# Altium footprint library DIP-CN  0607.PcbLib: 329 footprints (part 20 of 21)
Each footprint in its own frame and in the unit in brackets; x right, y up, seen from the top. Pads: shape width x height; smd on the part's side, far side on the other; paste and mask are expansions set on the pad; w line width, h text height; cw(c..) or ccw(c..) is an arc to the next point about the centre after c.
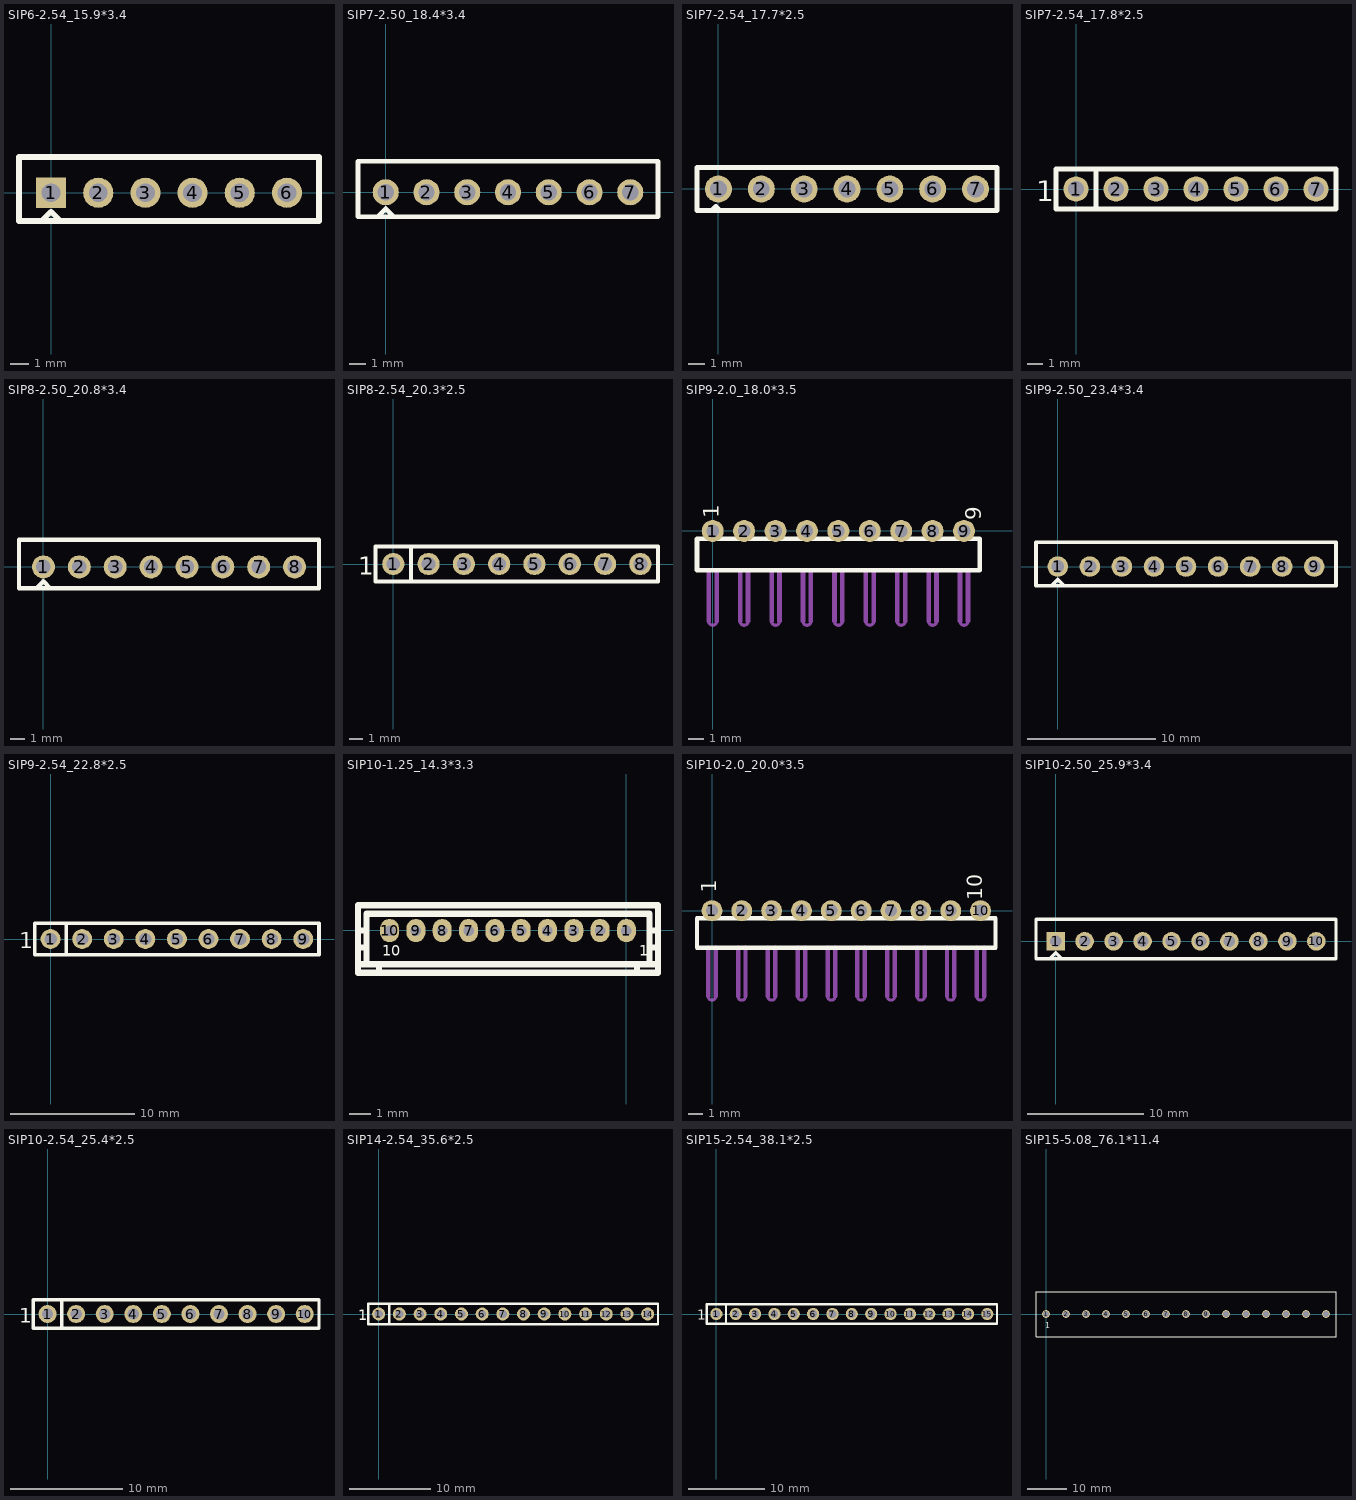
[diagram p19: the footprints below, top view; thin cyan lines are the x and y axes]

## SIP6-2.54_15.9*3.4 [mm]
pads (6):
  rect 1.6x1.6 hole 1: 1(0,0)
  round 1.6 hole 1: 2(2.5,0) 3(5,0) 4(7.5,0) 5(10,0) 6(12.5,0)
TopOverlay:
  lines w0.3: 0.5,-1.5 0,-1 ; -0.5,-1.5 0,-1 ; -0.5,-1.5 -0.5,-1.5 ; 0,-1 0,-1 ; -1.7,-1.5 14.2,-1.5 14.2,1.9 -1.7,1.9 -1.7,-1.5

## SIP7-2.50_18.4*3.4 [mm]
pads (7):
  round 1.6 hole 1: 1(0,0) 2(2.5,0) 3(5,0) 4(7.5,0) 5(10,0) 6(12.5,0) 7(15,0)
TopOverlay:
  lines w0.3: 0.5,-1.5 0,-1 ; -0.5,-1.5 0,-1 ; -0.5,-1.5 -0.5,-1.5 ; 0,-1 0,-1 ; -1.7,-1.5 16.7,-1.5 16.7,1.9 -1.7,1.9 -1.7,-1.5

## SIP7-2.54_17.7*2.5 [mm]
pads (7):
  round 1.6 hole 1: 1(0,0) 2(2.54,0) 3(5.08,0) 4(7.62,0) 5(10.16,0) 6(12.7,0) 7(15.24,0)
TopOverlay:
  lines w0.3: -0.4,-1.27 -0.155,-1.025 0.075,-1.255 ; -1.27,-1.27 16.51,-1.27 16.51,1.27 -1.27,1.27 -1.27,-1.27

## SIP7-2.54_17.8*2.5 [mm]
pads (7):
  round 1.6 hole 1: 1(0,0) 2(2.54,0) 3(5.08,0) 4(7.62,0) 5(10.16,0) 6(12.7,0) 7(15.24,0)
TopOverlay:
  lines w0.3: 1.27,-1.27 1.27,1.27 ; -1.27,-1.27 -1.27,1.27 16.51,1.27 16.51,-1.27 -1.27,-1.27
  text "1" at -2.54,-0.762 h1.3
BottomOverlay:
  lines w0.3: 1.27,-1.016 1.27,1.016 ; 3.81,-1.016 3.81,1.016 ; 6.35,-1.016 6.35,1.016 ; 8.89,-1.016 8.89,1.016 ; 11.43,-1.016 11.43,1.016 ; 13.97,-1.016 13.97,1.016

## SIP8-2.50_20.8*3.4 [mm]
pads (8):
  round 1.6 hole 1: 1(0,0) 2(2.5,0) 3(5,0) 4(7.5,0) 5(10,0) 6(12.5,0) 7(15,0) 8(17.5,0)
TopOverlay:
  lines w0.3: 0.5,-1.5 0,-1 ; -0.5,-1.5 -0.5,-1.5 ; -0.5,-1.5 0,-1 ; 0,-1 0,-1 ; -1.7,-1.5 19.2,-1.5 19.2,1.9 -1.7,1.9 -1.7,-1.5

## SIP8-2.54_20.3*2.5 [mm]
pads (8):
  round 1.6 hole 1: 1(0,0) 2(2.54,0) 3(5.08,0) 4(7.62,0) 5(10.16,0) 6(12.7,0) 7(15.24,0) 8(17.78,0)
TopOverlay:
  lines w0.3: 1.27,-1.27 1.27,1.27 ; -1.27,-1.27 -1.27,1.27 19.05,1.27 19.05,-1.27 -1.27,-1.27
  text "1" at -2.54,-0.762 h1.3
BottomOverlay:
  lines w0.3: 1.27,-1.016 1.27,1.016 ; 3.81,-1.016 3.81,1.016 ; 6.35,-1.016 6.35,1.016 ; 8.89,-1.016 8.89,1.016 ; 11.43,-1.016 11.43,1.016 ; 13.97,-1.016 13.97,1.016 ; 16.51,-1.016 16.51,1.016

## SIP9-2.0_18.0*3.5 [mm]
pads (9):
  round 1.4 hole 0.8: 1(-0.01,-0.006) 2(1.99,-0.006) 3(3.99,-0.006) 4(5.99,-0.006) 5(7.99,-0.006) 6(9.99,-0.006) 7(11.99,-0.006) 8(13.99,-0.006) 9(15.99,-0.006)
TopOverlay:
  lines w0.3: -1.01,-2.506 -1.01,-0.506 16.99,-0.506 16.99,-2.506 -1.01,-2.506
  text "9" at 17.09,0.694 h1
  text "1" at 0.39,0.794 h1
BottomOverlay:
  lines w0.3: 0.99,-0.756 0.99,0.744 ; 2.99,-0.756 2.99,0.744 ; 4.99,-0.756 4.99,0.744 ; 6.99,-0.756 6.99,0.744 ; 8.99,-0.756 8.99,0.744 ; 10.99,-0.756 10.99,0.744 ; 12.99,-0.756 12.99,0.744 ; 14.99,-0.756 14.99,0.744
Mechanical7:
  lines w0.2: -0.26,-5.756 ccw(c-0.01,-5.756) 0.24,-5.756 ; 1.74,-5.756 ccw(c1.99,-5.756) 2.24,-5.756 ; 3.74,-5.756 ccw(c3.99,-5.756) 4.24,-5.756 ; 5.74,-5.756 ccw(c5.99,-5.756) 6.24,-5.756 ; 7.74,-5.756 ccw(c7.99,-5.756) 8.24,-5.756 ; 9.74,-5.756 ccw(c9.99,-5.756) 10.24,-5.756 ; 11.74,-5.756 ccw(c11.99,-5.756) 12.24,-5.756 ; 13.74,-5.756 ccw(c13.99,-5.756) 14.24,-5.756 ; 15.74,-5.756 ccw(c15.99,-5.756) 16.24,-5.756
  lines w0.3: -0.26,-5.756 -0.26,-2.506 ; 0.24,-5.756 0.24,-2.506 ; 1.74,-5.756 1.74,-2.506 ; 2.24,-5.756 2.24,-2.506 ; 3.74,-5.756 3.74,-2.506 ; 4.24,-5.756 4.24,-2.506 ; 5.74,-5.756 5.74,-2.506 ; 6.24,-5.756 6.24,-2.506 ; 7.74,-5.756 7.74,-2.506 ; 8.24,-5.756 8.24,-2.506 ; 9.74,-5.756 9.74,-2.506 ; 10.24,-5.756 10.24,-2.506 ; 11.74,-5.756 11.74,-2.506 ; 12.24,-5.756 12.24,-2.506 ; 13.74,-5.756 13.74,-2.506 ; 14.24,-5.756 14.24,-2.506 ; 15.74,-5.756 15.74,-2.506 ; 16.24,-5.756 16.24,-2.506
  text "T<=1.2" at -0.51,-2.256 h0.5

## SIP9-2.50_23.4*3.4 [mm]
pads (9):
  round 1.6 hole 1: 1(0,0) 2(2.5,0) 3(5,0) 4(7.5,0) 5(10,0) 6(12.5,0) 7(15,0) 8(17.5,0) 9(20,0)
TopOverlay:
  lines w0.3: 0.5,-1.5 0,-1 ; -0.5,-1.5 0,-1 ; -0.5,-1.5 -0.5,-1.5 ; 0,-1 0,-1 ; -1.7,-1.5 21.7,-1.5 21.7,1.9 -1.7,1.9 -1.7,-1.5

## SIP9-2.54_22.8*2.5 [mm]
pads (9):
  round 1.6 hole 1: 1(0,0) 2(2.54,0) 3(5.08,0) 4(7.62,0) 5(10.16,0) 6(12.7,0) 7(15.24,0) 8(17.78,0) 9(20.32,0)
TopOverlay:
  lines w0.3: 1.27,-1.27 1.27,1.27 ; -1.27,-1.27 -1.27,1.27 21.59,1.27 21.59,-1.27 -1.27,-1.27
  text "1" at -2.54,-0.762 h1.3
BottomOverlay:
  lines w0.3: 1.27,-1.016 1.27,1.016 ; 3.81,-1.016 3.81,1.016 ; 6.35,-1.016 6.35,1.016 ; 8.89,-1.016 8.89,1.016 ; 11.43,-1.016 11.43,1.016 ; 13.97,-1.016 13.97,1.016 ; 16.51,-1.016 16.51,1.016 ; 19.05,-1.016 19.05,1.016

## SIP10-1.25_14.3*3.3 [mm]
pads (10):
  oval 0.9x1.1 hole 0.5: 1(0.005,-0.021) 2(-1.245,-0.021) 3(-2.495,-0.021) 4(-3.745,-0.021) 5(-4.995,-0.021) 6(-6.245,-0.021) 7(-7.495,-0.021) 8(-8.745,-0.021) 9(-9.995,-0.021) 10(-11.245,-0.021)
TopOverlay:
  lines w0.3: -12.745,-1.621 -12.345,-1.621 ; -12.745,-0.821 -12.345,-0.821 ; -12.745,-0.021 -12.345,-0.021 ; -11.745,-2.021 -11.745,-1.621 ; 0.505,-2.021 0.505,-1.621 ; 1.105,-0.821 1.505,-0.821 ; 1.105,-0.021 1.505,-0.021 ; 1.505,-1.621 1.105,-1.621 ; -12.345,-1.621 -12.345,0.779 1.105,0.779 1.105,-1.621 ; -12.345,-1.621 1.105,-1.621 ; -12.745,-2.021 1.505,-2.021 1.505,1.179 -12.745,1.179 -12.745,-2.021
  text "10" at -11.595,-1.221 h0.5
  text "1" at 0.605,-1.221 h0.5
BottomOverlay:
  lines w0.3: -10.62,-0.521 -10.62,0.479 ; -9.37,-0.521 -9.37,0.479 ; -8.12,-0.521 -8.12,0.479 ; -6.87,-0.521 -6.87,0.479 ; -5.62,-0.521 -5.62,0.479 ; -4.37,-0.521 -4.37,0.479 ; -3.12,-0.521 -3.12,0.479 ; -1.87,-0.521 -1.87,0.479 ; -0.62,-0.521 -0.62,0.479

## SIP10-2.0_20.0*3.5 [mm]
pads (10):
  round 1.4 hole 0.8: 1(-0.017,-0.006) 2(1.983,-0.006) 3(3.983,-0.006) 4(5.983,-0.006) 5(7.983,-0.006) 6(9.983,-0.006) 7(11.983,-0.006) 8(13.983,-0.006) 9(15.983,-0.006) 10(17.983,-0.006)
TopOverlay:
  lines w0.3: -1.017,-2.506 18.983,-2.506 18.983,-0.506 -1.017,-0.506 -1.017,-2.506
  text "1" at 0.283,1.194 h1
  text "10" at 18.083,0.694 h1
BottomOverlay:
  lines w0.3: 0.983,-0.756 0.983,0.744 ; 2.983,-0.756 2.983,0.744 ; 4.983,-0.756 4.983,0.744 ; 6.983,-0.756 6.983,0.744 ; 8.983,-0.756 8.983,0.744 ; 10.983,-0.756 10.983,0.744 ; 12.983,-0.756 12.983,0.744 ; 14.983,-0.756 14.983,0.744 ; 16.983,-0.756 16.983,0.744
Mechanical7:
  lines w0.2: -0.267,-5.756 ccw(c-0.017,-5.756) 0.233,-5.756 ; 1.733,-5.756 ccw(c1.983,-5.756) 2.233,-5.756 ; 3.733,-5.756 ccw(c3.983,-5.756) 4.233,-5.756 ; 5.733,-5.756 ccw(c5.983,-5.756) 6.233,-5.756 ; 7.733,-5.756 ccw(c7.983,-5.756) 8.233,-5.756 ; 9.733,-5.756 ccw(c9.983,-5.756) 10.233,-5.756 ; 11.733,-5.756 ccw(c11.983,-5.756) 12.233,-5.756 ; 13.733,-5.756 ccw(c13.983,-5.756) 14.233,-5.756 ; 15.733,-5.756 ccw(c15.983,-5.756) 16.233,-5.756 ; 17.733,-5.756 ccw(c17.983,-5.756) 18.233,-5.756
  lines w0.3: -0.267,-5.756 -0.267,-2.506 ; 0.233,-5.756 0.233,-2.506 ; 1.733,-5.756 1.733,-2.506 ; 2.233,-5.756 2.233,-2.506 ; 3.733,-5.756 3.733,-2.506 ; 4.233,-5.756 4.233,-2.506 ; 5.733,-5.756 5.733,-2.506 ; 6.233,-5.756 6.233,-2.506 ; 7.733,-5.756 7.733,-2.506 ; 8.233,-5.756 8.233,-2.506 ; 9.733,-5.756 9.733,-2.506 ; 10.233,-5.756 10.233,-2.506 ; 11.733,-5.756 11.733,-2.506 ; 12.233,-5.756 12.233,-2.506 ; 13.733,-5.756 13.733,-2.506 ; 14.233,-5.756 14.233,-2.506 ; 15.733,-5.756 15.733,-2.506 ; 16.233,-5.756 16.233,-2.506 ; 17.733,-5.756 17.733,-2.506 ; 18.233,-5.756 18.233,-2.506
  text "T<=1.2" at 2.444,-1.287 h0.5

## SIP10-2.50_25.9*3.4 [mm]
pads (10):
  rect 1.6x1.6 hole 1: 1(0,0)
  round 1.6 hole 1: 2(2.5,0) 3(5,0) 4(7.5,0) 5(10,0) 6(12.5,0) 7(15,0) 8(17.5,0) 9(20,0) 10(22.5,0)
TopOverlay:
  lines w0.3: 0.5,-1.5 0,-1 ; -0.5,-1.5 0,-1 ; -0.5,-1.5 -0.5,-1.5 ; 0,-1 0,-1 ; -1.7,-1.5 24.2,-1.5 24.2,1.9 -1.7,1.9 -1.7,-1.5

## SIP10-2.54_25.4*2.5 [mm]
pads (10):
  round 1.6 hole 1: 1(0,0) 2(2.54,0) 3(5.08,0) 4(7.62,0) 5(10.16,0) 6(12.7,0) 7(15.24,0) 8(17.78,0) 9(20.32,0) 10(22.86,0)
TopOverlay:
  lines w0.3: 1.27,-1.27 1.27,1.27 ; -1.27,-1.27 24.13,-1.27 24.13,1.27 -1.27,1.27 -1.27,-1.27
  text "1" at -2.54,-0.762 h1.3
BottomOverlay:
  lines w0.3: 1.27,-1.016 1.27,1.016 ; 3.81,-1.016 3.81,1.016 ; 6.35,-1.016 6.35,1.016 ; 8.89,-1.016 8.89,1.016 ; 11.43,-1.016 11.43,1.016 ; 13.97,-1.016 13.97,1.016 ; 16.51,-1.016 16.51,1.016 ; 19.05,-1.016 19.05,1.016 ; 21.59,-1.016 21.59,1.016

## SIP14-2.54_35.6*2.5 [mm]
pads (14):
  round 1.6 hole 1: 1(0,0) 2(2.54,0) 3(5.08,0) 4(7.62,0) 5(10.16,0) 6(12.7,0) 7(15.24,0) 8(17.78,0) 9(20.32,0) 10(22.86,0) 11(25.4,0) 12(27.94,0) 13(30.48,0) 14(33.02,0)
TopOverlay:
  lines w0.3: 1.27,-1.27 1.27,1.27 ; -1.27,-1.27 -1.27,1.27 34.29,1.27 34.29,-1.27 -1.27,-1.27
  text "1" at -2.54,-0.762 h1.3
BottomOverlay:
  lines w0.3: 1.27,-1.016 1.27,1.016 ; 3.81,-1.016 3.81,1.016 ; 6.35,-1.016 6.35,1.016 ; 8.89,-1.016 8.89,1.016 ; 11.43,-1.016 11.43,1.016 ; 13.97,-1.016 13.97,1.016 ; 16.51,-1.016 16.51,1.016 ; 19.05,-1.016 19.05,1.016 ; 21.59,-1.016 21.59,1.016 ; 24.13,-1.016 24.13,1.016 ; 26.67,-1.016 26.67,1.016 ; 29.21,-1.016 29.21,1.016 ; 31.75,-1.016 31.75,1.016

## SIP15-2.54_38.1*2.5 [mm]
pads (15):
  round 1.6 hole 1: 1(0,0) 2(2.54,0) 3(5.08,0) 4(7.62,0) 5(10.16,0) 6(12.7,0) 7(15.24,0) 8(17.78,0) 9(20.32,0) 10(22.86,0) 11(25.4,0) 12(27.94,0) 13(30.48,0) 14(33.02,0) 15(35.56,0)
TopOverlay:
  lines w0.3: 1.27,-1.27 1.27,1.27 ; -1.27,-1.27 36.83,-1.27 36.83,1.27 -1.27,1.27 -1.27,-1.27
  text "1" at -2.54,-0.762 h1.3
BottomOverlay:
  lines w0.3: 1.27,-1.016 1.27,1.016 ; 3.81,-1.016 3.81,1.016 ; 6.35,-1.016 6.35,1.016 ; 8.89,-1.016 8.89,1.016 ; 11.43,-1.016 11.43,1.016 ; 13.97,-1.016 13.97,1.016 ; 16.51,-1.016 16.51,1.016 ; 19.05,-1.016 19.05,1.016 ; 21.59,-1.016 21.59,1.016 ; 24.13,-1.016 24.13,1.016 ; 26.67,-1.016 26.67,1.016 ; 29.21,-1.016 29.21,1.016 ; 31.75,-1.016 31.75,1.016 ; 34.29,-1.016 34.29,1.016

## SIP15-5.08_76.1*11.4 [mm]
pads (15):
  round 2 hole 1.4: 1(0,0) 2(5.08,0) 3(10.16,0) 4(15.24,0) 5(20.32,0) 6(25.4,0) 7(30.48,0) 8(35.56,0) 9(40.64,0) 10(45.72,0) 11(50.8,0) 12(55.88,0) 13(60.96,0) 14(66.04,0) 15(71.12,0)
TopOverlay:
  lines w0.3: -2.54,-5.715 -2.54,5.715 73.66,5.715 73.66,-5.715 -2.54,-5.715
  text "1" at -0.25,-3.575 h1.52